# Altium footprint library PCB - CONNECTOR - SAMTEC IPL1-103-01-L-D-K.PCBLIB: 1 footprints
Each footprint in its own frame and in the unit in brackets; x right, y up, seen from the top. Pads: shape width x height; smd on the part's side, far side on the other; paste and mask are expansions set on the pad; w line width, h text height; cw(c..) or ccw(c..) is an arc to the next point about the centre after c.
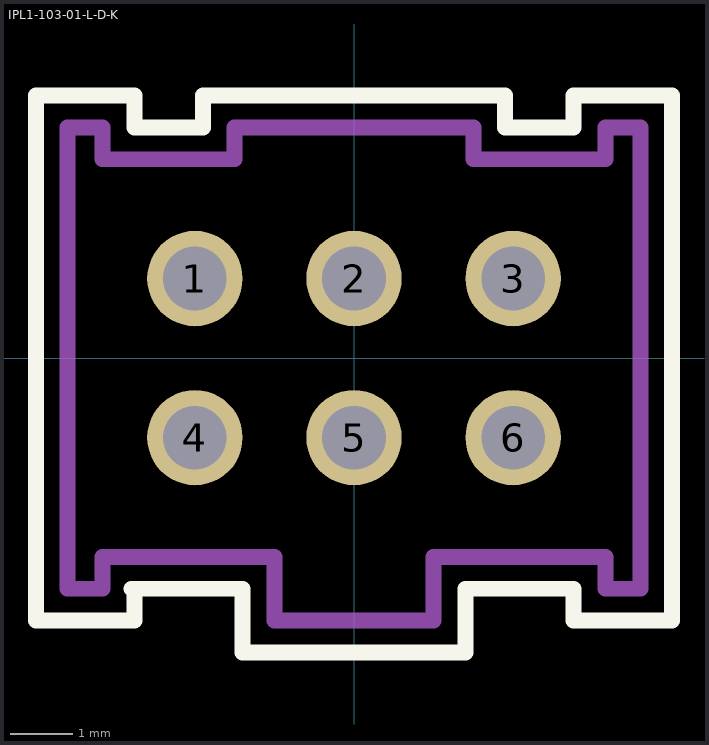
[diagram p0: the footprint, top view; thin cyan lines are the x and y axes]

## IPL1-103-01-L-D-K [mil]
pads (6):
  round 60 hole 40 mask+3: 1(-100,50) 2(0,50) 3(100,50) 4(-100,-50) 5(0,-50) 6(100,-50)
Top Overlay:
  lines w10: -140,-145 -70,-145 -70,-185 70,-185 70,-145 138,-145 138,-165 200,-165 200,165 138,165 138,145 95,145 95,165 -95,165 -95,145 -138,145 -138,165 -200,165 -200,-165 -138,-165 -138,-145
M5 Assembly Top:
  lines w10: -180,-145 -158,-145 -158,-125 -50,-125 -50,-165 50,-165 50,-125 158,-125 158,-145 180,-145 180,145 158,145 158,125 75,125 75,145 -75,145 -75,125 -158,125 -158,145 -180,145 -180,-145
  text ".Designator" at -82.68,-39.37 h60
3D body "IPL1-103-01-L-D-K.stp": height 320, standoff -120, extent -180,-165 180,145